# Altium footprint library male_headers.PcbLib: 1 footprints
Each footprint in its own frame and in the unit in brackets; x right, y up, seen from the top. Pads: shape width x height; smd on the part's side, far side on the other; paste and mask are expansions set on the pad; w line width, h text height; cw(c..) or ccw(c..) is an arc to the next point about the centre after c.
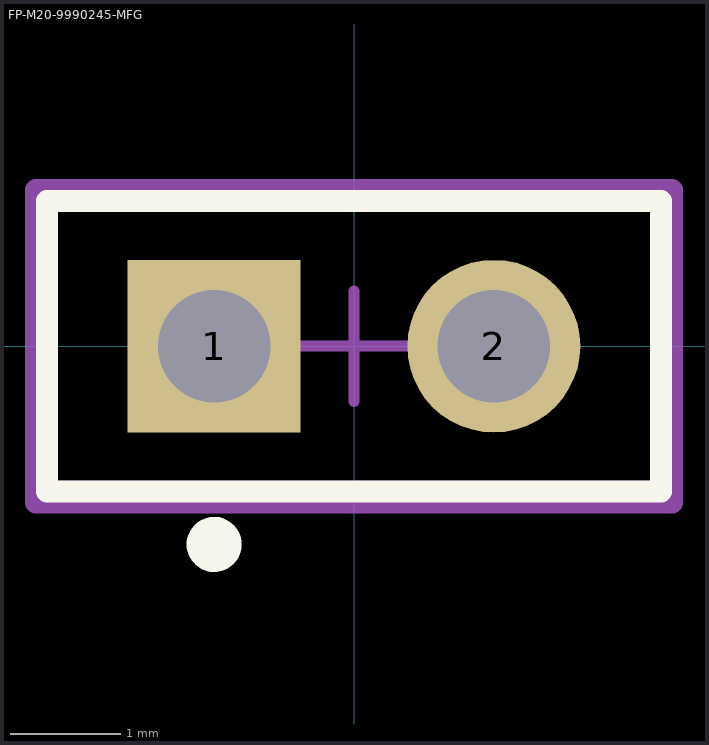
[diagram p0: the footprint, top view; thin cyan lines are the x and y axes]

## FP-M20-9990245-MFG [mm]
pads (2):
  rect 1.57x1.57 hole 1.02 paste-2539.97 mask+0: 1(-1.27,0)
  round 1.57 hole 1.02 paste-2539.97 mask+0: 2(1.27,0)
Top Overlay:
  circle w0.25: c-1.27,-1.8 r0.125
  lines w0.2: -2.79,-1.32 -2.79,1.32 2.79,1.32 2.79,-1.32 -2.79,-1.32
Top Assembly:
  lines w0.2: -2.89,-1.42 -2.89,1.42 2.89,1.42 2.89,-1.42 -2.89,-1.42
  text ".Designator" at 0,0.188 h1
Top 3D Body:
  lines w0.2: -2.79,-1.32 -2.79,1.32 2.79,1.32 2.79,-1.32 -2.79,-1.32
Top Courtyard:
  lines w0.2: -2.89,-1.42 -2.89,1.42 2.89,1.42 2.89,-1.42 -2.89,-1.42
Top Component Center:
  lines w0.1: -0.5,0 0.5,0 ; 0,-0.5 0,0.5
3D body "Conn_Harwin_M20-9990245_eec.STEP": height 0.25, standoff 0, extent -2.89,-1.42 2.89,1.42